# EAGLE library part ATTINY2313A (library cyberdriver)
ATTINY2313A 2kB 20MHz I2C/SPI/UART
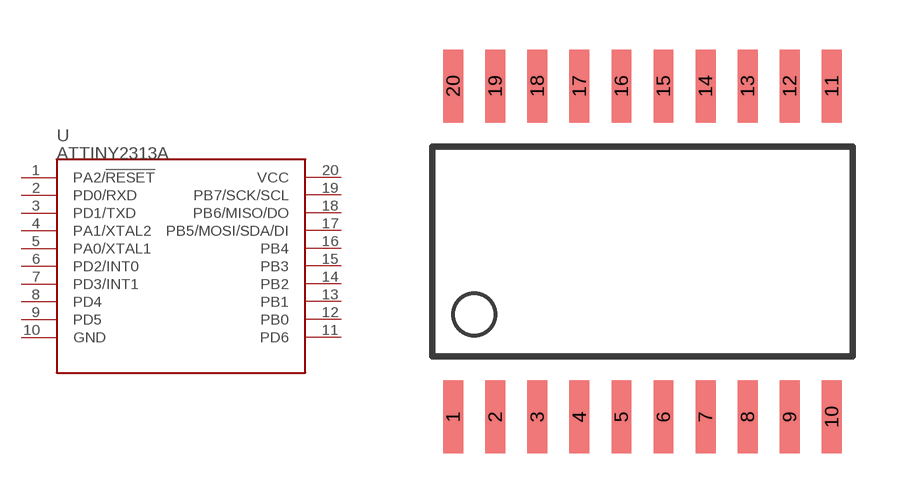
[diagram p1: symbol with the pads of SOP20W; footprint SOP20W]

Designator prefix U

## ATTINY2313A (PROD_ID: IC-11305; VALUE: ATTINY2313A)  [SOP20W]
1  PA2/!RESET
2  PD0/RXD
3  PD1/TXD
4  PA1/XTAL2
5  PA0/XTAL1
6  PD2/INT0
7  PD3/INT1
8  PD4
9  PD5
10  GND
11  PD6
12  PB0
13  PB1
14  PB2
15  PB3
16  PB4
17  PB5/MOSI/SDA/DI
18  PB6/MISO/DO
19  PB7/SCK/SCL
20  VCC

## Footprint SOP20W (pad centres in mm)
SMALL OUTLINE PACKAGE
smd 0.6 x 2.2: 1 -5.715,-5; 2 -4.445,-5; 3 -3.175,-5; 4 -1.905,-5; 5 -0.635,-5; 6 0.635,-5; 7 1.905,-5; 8 3.175,-5; 9 4.445,-5; 10 5.715,-5; 11 5.715,5; 12 4.445,5; 13 3.175,5; 14 1.905,5; 15 0.635,5; 16 -0.635,5; 17 -1.905,5; 18 -3.175,5; 19 -4.445,5; 20 -5.715,5